# Altium footprint library Fuse with holder 5x20mm.PcbLib: 27 footprints (part 1 of 2)
Each footprint in its own frame and in the unit in brackets; x right, y up, seen from the top. Pads: shape width x height; smd on the part's side, far side on the other; paste and mask are expansions set on the pad; w line width, h text height; cw(c..) or ccw(c..) is an arc to the next point about the centre after c.
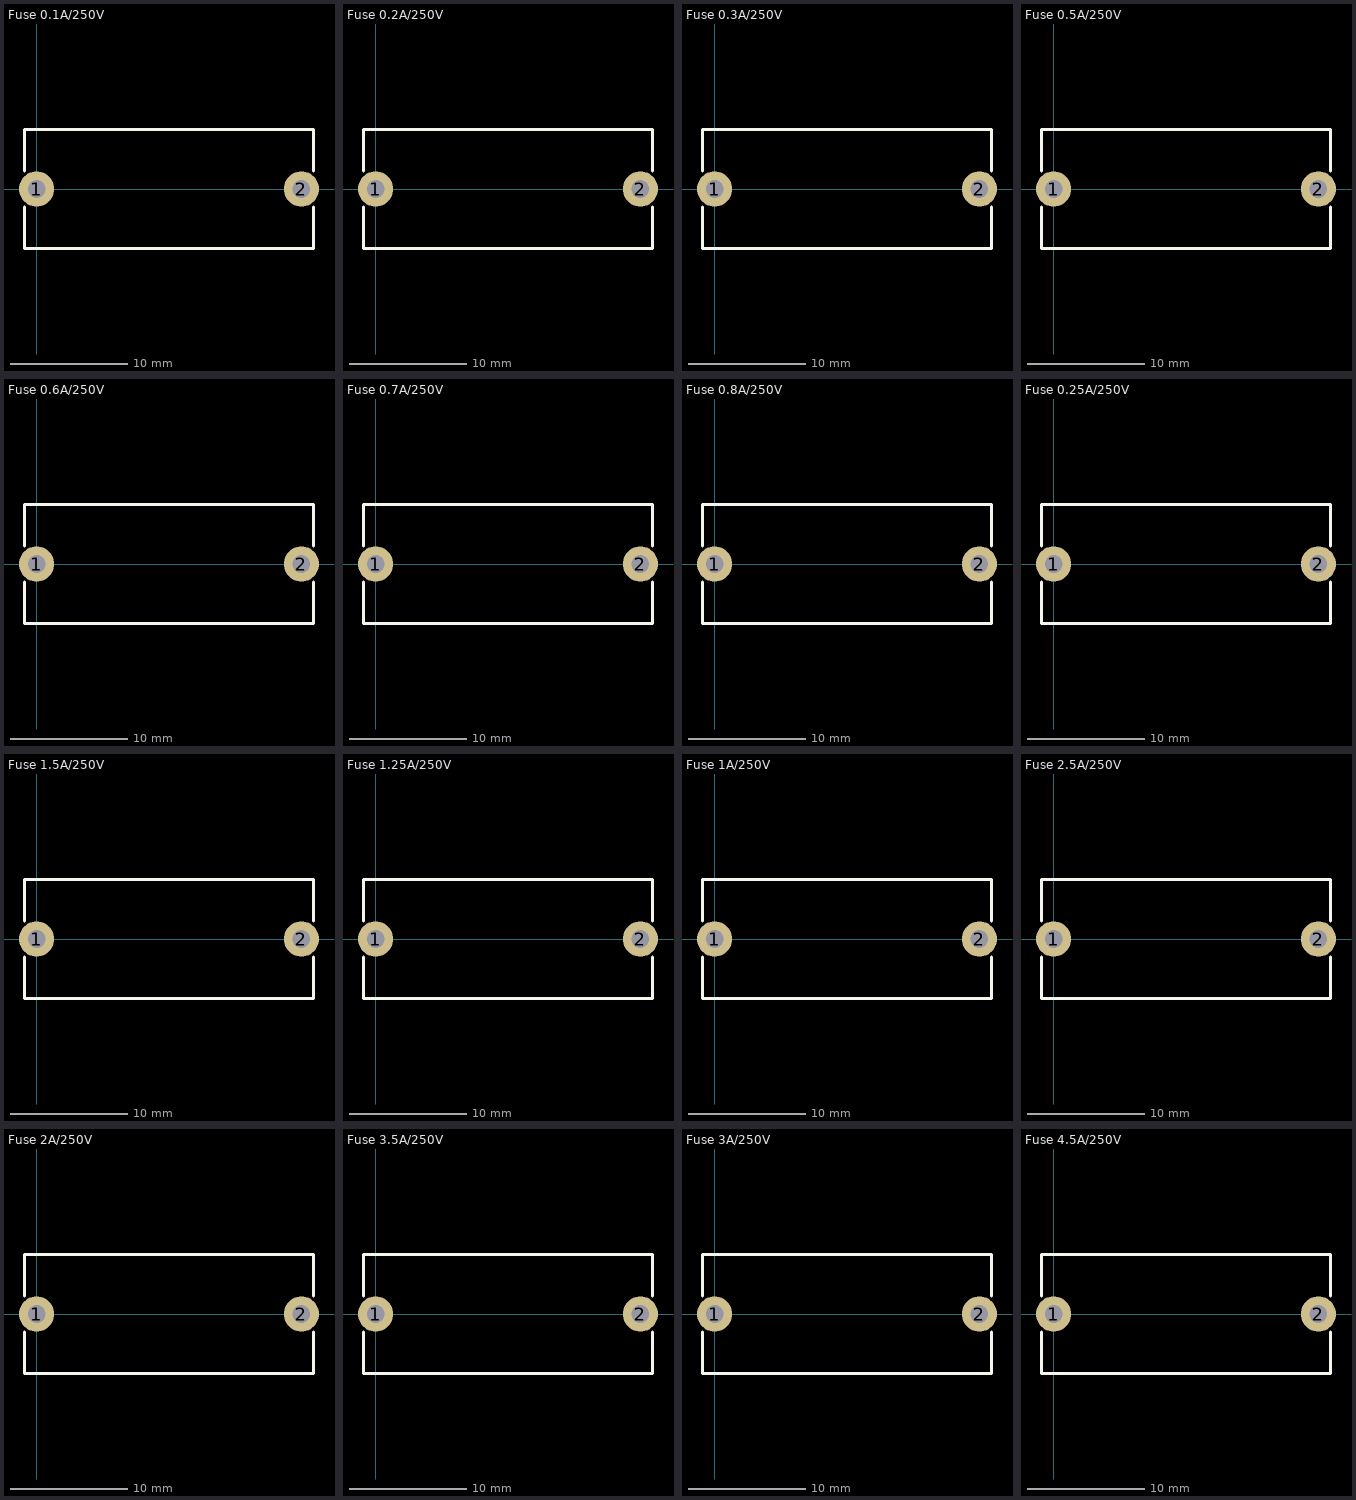
[diagram p0: the footprints below, top view; thin cyan lines are the x and y axes]

## Fuse 0.1A/250V [mm] "FUSE GLASS 0.1A 250VAC 5X20MM"
pads (2):
  round 3 hole 1.5: 1(0,0) 2(22.6,0)
Top Overlay:
  lines w0.254: -1.016,-1.524 -1.016,-5.08 23.622,-5.08 23.622,-1.524 ; -1.016,1.524 -1.016,5.08 23.622,5.08 23.622,1.524
3D body "User Library-FHP-105.step": height 10.8, standoff -3, extent -0.8,-4.9 23.4,4.9
3D body "User Library-FUSIVEL.step": height 9.36, standoff 4.36, extent 1.3,-2.5 21.3,2.5

## Fuse 0.2A/250V [mm] "FUSE GLASS 0.2A 250VAC 5X20MM"
pads (2):
  round 3 hole 1.5: 1(0,0) 2(22.6,0)
Top Overlay:
  lines w0.254: -1.016,-1.524 -1.016,-5.08 23.622,-5.08 23.622,-1.524 ; -1.016,1.524 -1.016,5.08 23.622,5.08 23.622,1.524
3D body "User Library-FUSIVEL.step": height 9.36, standoff 4.36, extent 1.3,-2.5 21.3,2.5
3D body "User Library-FHP-105.step": height 10.8, standoff -3, extent -0.8,-4.9 23.4,4.9

## Fuse 0.3A/250V [mm] "FUSE GLASS 0.3A 250VAC 5X20MM"
pads (2):
  round 3 hole 1.5: 1(0,0) 2(22.6,0)
Top Overlay:
  lines w0.254: -1.016,-1.524 -1.016,-5.08 23.622,-5.08 23.622,-1.524 ; -1.016,1.524 -1.016,5.08 23.622,5.08 23.622,1.524
3D body "User Library-FUSIVEL.step": height 9.36, standoff 4.36, extent 1.3,-2.5 21.3,2.5
3D body "User Library-FHP-105.step": height 10.8, standoff -3, extent -0.8,-4.9 23.4,4.9

## Fuse 0.5A/250V [mm] "FUSE GLASS 0.5A 250VAC 5X20MM"
pads (2):
  round 3 hole 1.5: 1(0,0) 2(22.6,0)
Top Overlay:
  lines w0.254: -1.016,-1.524 -1.016,-5.08 23.622,-5.08 23.622,-1.524 ; -1.016,1.524 -1.016,5.08 23.622,5.08 23.622,1.524
3D body "User Library-FUSIVEL.step": height 9.36, standoff 4.36, extent 1.3,-2.5 21.3,2.5
3D body "User Library-FHP-105.step": height 10.8, standoff -3, extent -0.8,-4.9 23.4,4.9

## Fuse 0.6A/250V [mm] "FUSE GLASS 0.6A 250VAC 5X20MM"
pads (2):
  round 3 hole 1.5: 1(0,0) 2(22.6,0)
Top Overlay:
  lines w0.254: -1.016,-1.524 -1.016,-5.08 23.622,-5.08 23.622,-1.524 ; -1.016,1.524 -1.016,5.08 23.622,5.08 23.622,1.524
3D body "User Library-FUSIVEL.step": height 9.36, standoff 4.36, extent 1.3,-2.5 21.3,2.5
3D body "User Library-FHP-105.step": height 10.8, standoff -3, extent -0.8,-4.9 23.4,4.9

## Fuse 0.7A/250V [mm] "FUSE GLASS 0.7A 250VAC 5X20MM"
pads (2):
  round 3 hole 1.5: 1(0,0) 2(22.6,0)
Top Overlay:
  lines w0.254: -1.016,-1.524 -1.016,-5.08 23.622,-5.08 23.622,-1.524 ; -1.016,1.524 -1.016,5.08 23.622,5.08 23.622,1.524
3D body "User Library-FUSIVEL.step": height 9.36, standoff 4.36, extent 1.3,-2.5 21.3,2.5
3D body "User Library-FHP-105.step": height 10.8, standoff -3, extent -0.8,-4.9 23.4,4.9

## Fuse 0.8A/250V [mm] "FUSE GLASS 0.8A 250VAC 5X20MM"
pads (2):
  round 3 hole 1.5: 1(0,0) 2(22.6,0)
Top Overlay:
  lines w0.254: -1.016,-1.524 -1.016,-5.08 23.622,-5.08 23.622,-1.524 ; -1.016,1.524 -1.016,5.08 23.622,5.08 23.622,1.524
3D body "User Library-FUSIVEL.step": height 9.36, standoff 4.36, extent 1.3,-2.5 21.3,2.5
3D body "User Library-FHP-105.step": height 10.8, standoff -3, extent -0.8,-4.9 23.4,4.9

## Fuse 0.25A/250V [mm] "FUSE GLASS 0.25A 250VAC 5X20MM"
pads (2):
  round 3 hole 1.5: 1(0,0) 2(22.6,0)
Top Overlay:
  lines w0.254: -1.016,-1.524 -1.016,-5.08 23.622,-5.08 23.622,-1.524 ; -1.016,1.524 -1.016,5.08 23.622,5.08 23.622,1.524
3D body "User Library-FUSIVEL.step": height 9.36, standoff 4.36, extent 1.3,-2.5 21.3,2.5
3D body "User Library-FHP-105.step": height 10.8, standoff -3, extent -0.8,-4.9 23.4,4.9

## Fuse 1.5A/250V [mm] "FUSE GLASS 1.5A 250VAC 5X20MM"
pads (2):
  round 3 hole 1.5: 1(0,0) 2(22.6,0)
Top Overlay:
  lines w0.254: -1.016,-1.524 -1.016,-5.08 23.622,-5.08 23.622,-1.524 ; -1.016,1.524 -1.016,5.08 23.622,5.08 23.622,1.524
3D body "User Library-FUSIVEL.step": height 9.36, standoff 4.36, extent 1.3,-2.5 21.3,2.5
3D body "User Library-FHP-105.step": height 10.8, standoff -3, extent -0.8,-4.9 23.4,4.9

## Fuse 1.25A/250V [mm] "FUSE GLASS 1.25A 250VAC 5X20MM"
pads (2):
  round 3 hole 1.5: 1(0,0) 2(22.6,0)
Top Overlay:
  lines w0.254: -1.016,-1.524 -1.016,-5.08 23.622,-5.08 23.622,-1.524 ; -1.016,1.524 -1.016,5.08 23.622,5.08 23.622,1.524
3D body "User Library-FHP-105.step": height 10.8, standoff -3, extent -0.8,-4.9 23.4,4.9
3D body "User Library-FUSIVEL.step": height 9.36, standoff 4.36, extent 1.3,-2.5 21.3,2.5

## Fuse 1A/250V [mm] "FUSE GLASS 1A 250VAC 5X20MM"
pads (2):
  round 3 hole 1.5: 1(0,0) 2(22.6,0)
Top Overlay:
  lines w0.254: -1.016,-1.524 -1.016,-5.08 23.622,-5.08 23.622,-1.524 ; -1.016,1.524 -1.016,5.08 23.622,5.08 23.622,1.524
3D body "User Library-FUSIVEL.step": height 9.36, standoff 4.36, extent 1.3,-2.5 21.3,2.5
3D body "User Library-FHP-105.step": height 10.8, standoff -3, extent -0.8,-4.9 23.4,4.9

## Fuse 2.5A/250V [mm] "FUSE GLASS 2.5A 250VAC 5X20MM"
pads (2):
  round 3 hole 1.5: 1(0,0) 2(22.6,0)
Top Overlay:
  lines w0.254: -1.016,-1.524 -1.016,-5.08 23.622,-5.08 23.622,-1.524 ; -1.016,1.524 -1.016,5.08 23.622,5.08 23.622,1.524
3D body "User Library-FUSIVEL.step": height 9.36, standoff 4.36, extent 1.3,-2.5 21.3,2.5
3D body "User Library-FHP-105.step": height 10.8, standoff -3, extent -0.8,-4.9 23.4,4.9

## Fuse 2A/250V [mm] "FUSE GLASS 2A 250VAC 5X20MM"
pads (2):
  round 3 hole 1.5: 1(0,0) 2(22.6,0)
Top Overlay:
  lines w0.254: -1.016,-1.524 -1.016,-5.08 23.622,-5.08 23.622,-1.524 ; -1.016,1.524 -1.016,5.08 23.622,5.08 23.622,1.524
3D body "User Library-FUSIVEL.step": height 9.36, standoff 4.36, extent 1.3,-2.5 21.3,2.5
3D body "User Library-FHP-105.step": height 10.8, standoff -3, extent -0.8,-4.9 23.4,4.9

## Fuse 3.5A/250V [mm] "FUSE GLASS 3.5A 250VAC 5X20MM"
pads (2):
  round 3 hole 1.5: 1(0,0) 2(22.6,0)
Top Overlay:
  lines w0.254: -1.016,-1.524 -1.016,-5.08 23.622,-5.08 23.622,-1.524 ; -1.016,1.524 -1.016,5.08 23.622,5.08 23.622,1.524
3D body "User Library-FUSIVEL.step": height 9.36, standoff 4.36, extent 1.3,-2.5 21.3,2.5
3D body "User Library-FHP-105.step": height 10.8, standoff -3, extent -0.8,-4.9 23.4,4.9

## Fuse 3A/250V [mm] "FUSE GLASS 3A 250VAC 5X20MM"
pads (2):
  round 3 hole 1.5: 1(0,0) 2(22.6,0)
Top Overlay:
  lines w0.254: -1.016,-1.524 -1.016,-5.08 23.622,-5.08 23.622,-1.524 ; -1.016,1.524 -1.016,5.08 23.622,5.08 23.622,1.524
3D body "User Library-FUSIVEL.step": height 9.36, standoff 4.36, extent 1.3,-2.5 21.3,2.5
3D body "User Library-FHP-105.step": height 10.8, standoff -3, extent -0.8,-4.9 23.4,4.9

## Fuse 4.5A/250V [mm] "FUSE GLASS 4.5A 250VAC 5X20MM"
pads (2):
  round 3 hole 1.5: 1(0,0) 2(22.6,0)
Top Overlay:
  lines w0.254: -1.016,-1.524 -1.016,-5.08 23.622,-5.08 23.622,-1.524 ; -1.016,1.524 -1.016,5.08 23.622,5.08 23.622,1.524
3D body "User Library-FUSIVEL.step": height 9.36, standoff 4.36, extent 1.3,-2.5 21.3,2.5
3D body "User Library-FHP-105.step": height 10.8, standoff -3, extent -0.8,-4.9 23.4,4.9